# Altium footprint library XT90PW-F.PcbLib: 1 footprints
Each footprint in its own frame and in the unit in brackets; x right, y up, seen from the top. Pads: shape width x height; smd on the part's side, far side on the other; paste and mask are expansions set on the pad; w line width, h text height; cw(c..) or ccw(c..) is an arc to the next point about the centre after c.
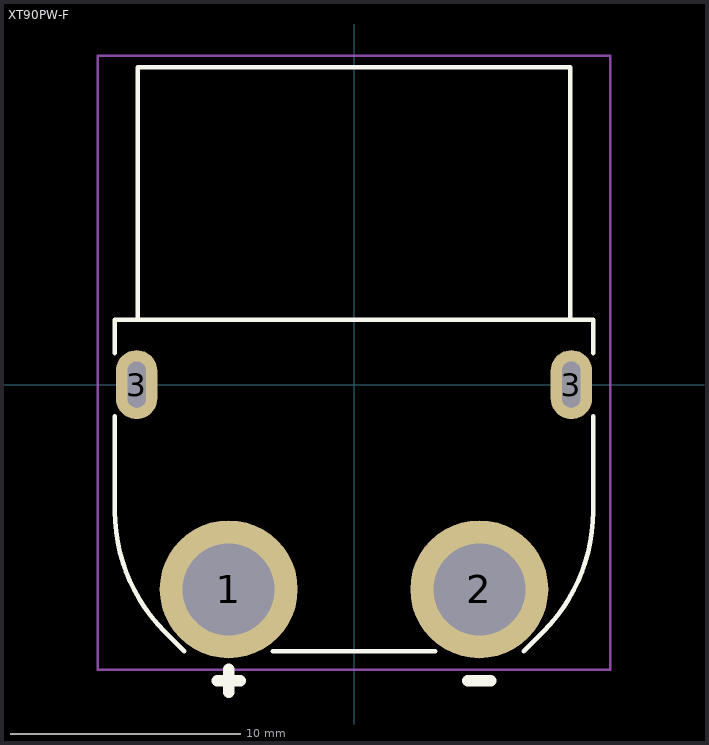
[diagram p0: the footprint, top view; thin cyan lines are the x and y axes]

## XT90PW-F [mm]
pads (4):
  round 6 hole 4: 1(-5.45,-8.9) 2(5.45,-8.9)
  rrect100% 1.8x3 hole 0.8 slot 2 at 90 deg: 3(-9.45,0) 3(9.45,0)
Top Overlay:
  lines w0.2: -10.4,-1.375 -10.4,-5.502 ccw(c-2.982,-5.502) -8.227,-10.748 -7.375,-11.6 ; -10.4,1.375 -10.4,2.825 ; -9.4,2.825 -9.4,13.8 9.35,13.8 ; -3.525,-11.6 3.525,-11.6 ; 7.375,-11.6 8.227,-10.748 ccw(c2.982,-5.502) 10.4,-5.502 10.4,-1.375 ; 9.4,2.825 9.4,13.8 ; 10.4,1.375 10.4,2.825 -10.4,2.825 ; -10.4,2.825 -10.4,2.825
  lines w0.5: -5.95,-12.875 -4.95,-12.875 ; -5.45,-13.375 -5.45,-12.375 ; 4.95,-12.875 5.95,-12.875
Top Courtyard:
  lines w0.1: -11.15,-12.4 -11.15,14.3 11.15,14.3 11.15,-12.4 5.475,-12.4 -11.15,-12.4
3D body "step_temp.STEP": height 10.3, standoff -3.2, extent -10.65,-11.6 10.65,13.8